# EAGLE library part TPS2812-SOIC8 (library LITTLEBITS140826)
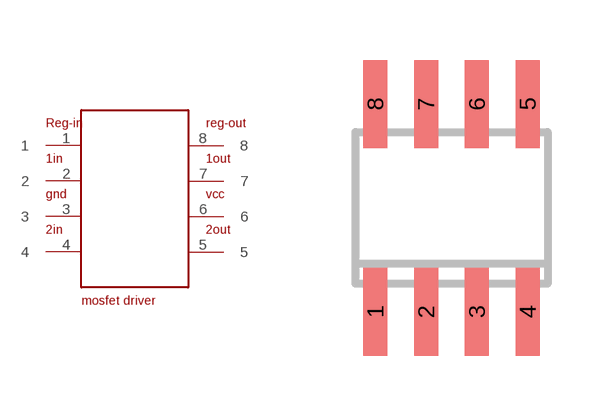
[diagram p4: symbol with the pads of TPS2812; footprint TPS2812]

Designator prefix -

## TPS2812-SOIC8  [TPS2812]
1  1
2  2
3  3
4  4
5  5
6  6
7  7
8  8

## Footprint TPS2812 (pad centres in mm)
smd 0.6 x 2.2: 1 -1.905,-2.6; 2 -0.635,-2.6; 3 0.635,-2.6; 4 1.905,-2.6; 5 1.905,2.6; 6 0.635,2.6; 7 -0.635,2.6; 8 -1.905,2.6